# EAGLE library part N64-MULTIAV (library nintendo)
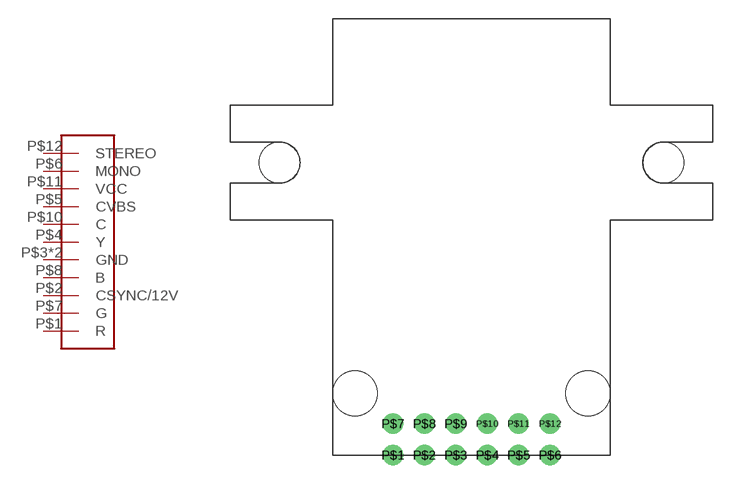
[diagram p2: symbol with the pads of N64-MULTIAV; footprint N64-MULTIAV]

Designator prefix -

## N64-MULTIAV  [N64-MULTIAV]
P$1  R  out
P$2  CSYNC/12V  out
P$3  GND  out
P$4  Y  out
P$5  CVBS  out
P$6  MONO  out
P$7  G  out
P$8  B  out
P$9  GND  out
P$10  C  out
P$11  VCC  out
P$12  STEREO  out

## Footprint N64-MULTIAV (pad centres in mm)
drill 1.1: P$1 4.85,-35.3; P$2 7.39,-35.3; P$3 9.93,-35.3; P$4 12.47,-35.3; P$5 15.01,-35.3; P$6 17.55,-35.3; P$7 4.85,-32.76; P$8 7.39,-32.76; P$9 9.93,-32.76; P$10 12.47,-32.76; P$11 15.01,-32.76; P$12 17.55,-32.76
hole 3.6 at 20.6,-30.3
hole 3.6 at 1.8,-30.3
hole 3.3 at 26.69,-11.65
hole 3.3 at -4.31,-11.65